# EAGLE library part IRF7313PBF (library COM-13909)
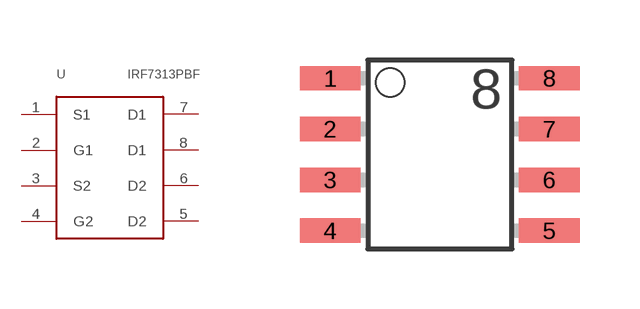
[diagram p1: symbol with the pads of SO-8; footprint SO-8]

Designator prefix -

## IRF7313PBF  [SO-8]
1  S1
2  G1
3  S2
4  G2
5  D2
6  D2
7  D1
8  D1

## Footprint SO-8 (pad centres in mm)
SO 8 small outline
smd 1.524 x 0.61: 1 -2.743,1.905; 2 -2.743,0.635; 3 -2.743,-0.635; 4 -2.743,-1.905; 5 2.743,-1.905; 6 2.743,-0.635; 7 2.743,0.635; 8 2.743,1.905